# EAGLE library part TLV5636 (library CEDT)
12-Bit, 1 us DAC Serial Input, Programabble Internal Reference, Settling Time Texas Instruments
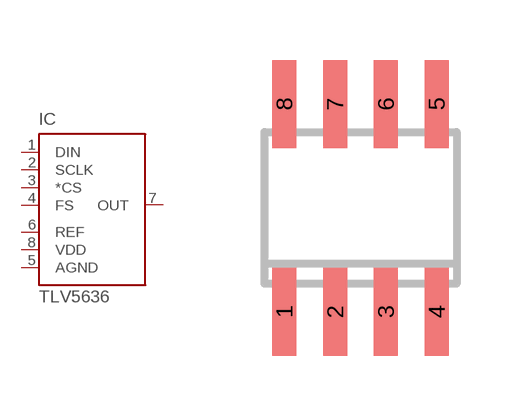
[diagram p45: symbol with the pads of SO08; footprint SO08]

Designator prefix IC

## TLV5636  [SO08]
1  DIN  pas
2  SCLK  pas
3  *CS  pas
4  FS  pas
5  AGND  pwr
6  REF  pas
7  OUT  pas
8  VDD  pwr

## Footprint SO08 (pad centres in mm)
Small Outline Package 8 NS Package M08A
smd 0.6 x 2.2: 1 -1.905,-2.6; 2 -0.635,-2.6; 3 0.635,-2.6; 4 1.905,-2.6; 5 1.905,2.6; 6 0.635,2.6; 7 -0.635,2.6; 8 -1.905,2.6